# Altium integrated library Linear Technology Power Management Switching Regulator LTC1174-LTC3901.IntLib: 2647 symbols (part 224 of 364)
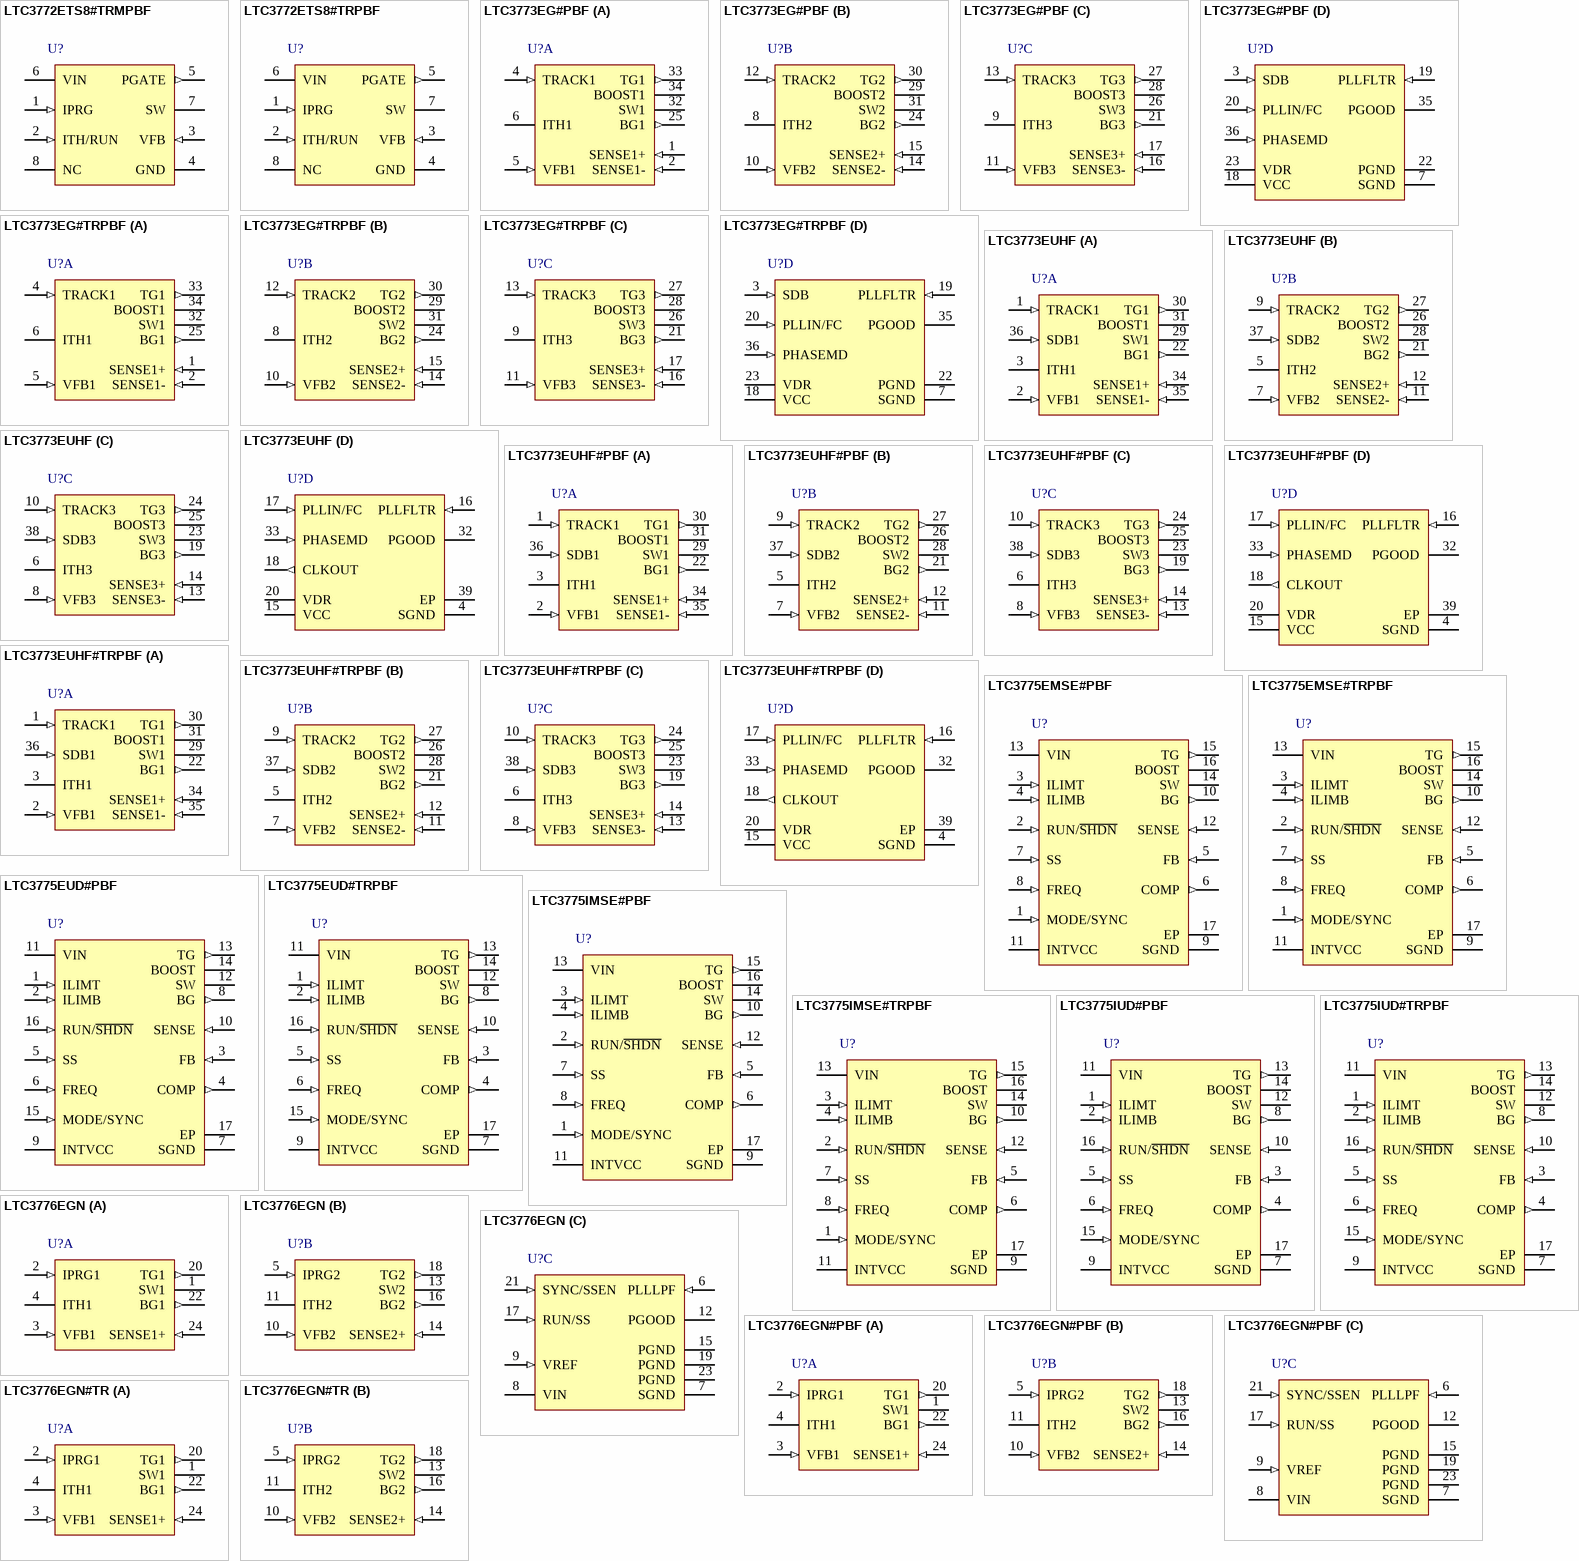
[diagram p231: symbols LTC3772ETS8#TRMPBF to LTC3776EGN#TR]

## LTC3775EMSE#TRPBF
designator U?
High Frequency Synchronous Step-Down Voltage Mode DC/DC Controller, 16-pin SOP (MSE-16-EDP), -40 to 85 degC, Pb-Free, Tape and Reel; Manufacturer: Linear Technology; PartNumber: LTC3775EMSE#TRPBF; Frequency Sync Range: 250kHz - 1MHz; Number of Outputs: 1; DatasheetVersion: Rev. A; PackageVersion: Rev. F, 05/2013; PackageReference: MSE-16; PackageDescription: 16-Pin Plastic MSOP, Exposed Die Pad, Body 4.039 x 3 mm, Pitch 0.5 mm; Supplier 1: Digi-Key; Supplier Part Number 1: LTC3775EMSE#TRPBF-ND; Packing: Tape and Reel; RoHS: TRUE; Mounting Technology: Surface Mount; ComponentLink1Description: Manufacturer URL; ComponentLink1URL: http://www.linear.com/; ComponentLink2Description: Datasheet; ComponentLink2URL: http://cds.linear.com/docs/en/datasheet/3775fa.pdf; ComponentLink3Description: Package Specification; ComponentLink3URL: http://cds.linear.com/docs/en/packaging/05081667_F_MSE16.pdf
footprint LT-MSE-16-EDP_N (SOP, 16-Leads, Body 4.1x3.1mm, Pitch 0.5mm, Thermal Pad 2.95x1.76mm, IPC Medium Density)
footprint LT-MSE-16-EDP_L (SOP, 16-Leads, Body 4.1x3.1mm, Pitch 0.5mm, Thermal Pad 2.95x1.76mm, IPC High Density)
footprint LT-MSE-16-EDP_M (SOP, 16-Leads, Body 4.1x3.1mm, Pitch 0.5mm, Thermal Pad 2.95x1.76mm, IPC Low Density)
pins: 1 MODE/SYNC (in) "Pulse-Skipping Mode Enable/ Sync Pin. This multifunction pin provides pulse-skipping mode enable/disable control and an external clock input for synchronization of the internal oscillator. Pulling this pin below 1.2V (DC) or (See Datasheet)", 2 RUN/~{SHDN} (in) "Enable/Shutdown Input. Pulling this pin above 1.22V enables the controller. Forcing this pin below 1.22V causes the driver outputs to pull low. Pulling this pin below 0.74V forces the LTC3775 into shutdown mode. While in (See Datasheet)", 3 ILIMT (in) "Topside Current Limit Set Point. This pin has an internal 100uA pull-down current, allowing the topside current limit threshold to be programmed by  an external resistor connected to VIN. See Current Limit Applications.", 4 ILIMB (in) "Bottom Side Current Limit Set Point. This pin has an internal 10uA pull-up current, allowing the bottom side current limit threshold to be programmed by an external resistor connected to SGND. See Current Limit Applications.", 5 FB (in) "Error Amplifier Input. The FB pin is connected to a resistive divider from VOUT to SGND. The feedback loop compensation network is also connected to this pin.", 6 COMP (out) "Error Amplifier Output. Use an RC network between the COMP pin and the FB pin to compensate the feedback loop for optimum transient response", 7 SS (in) "Soft-Start. Connect this pin to an external capacitor, CSS, to implement a soft-start function. When the voltage on the SS pin is less than the 0.6V internal reference, the LTC3775 regulates the VFB voltage to the SS pin (See Datasheet)", 8 FREQ (in) "Frequency Set. A resistor connected from this pin to SGND sets the free-running frequency of the internal oscillator. See Applications Information section for resistor value selection details", 9 SGND (power) "Signal Ground. All the internal low power circuitry returns to the SGND pin. All feedback and soft-start connections should return to SGND. SGND should be Kelvin connected to a single point near the negative terminal of the (See Datasheet)", 10 BG (out) "Bottom Gate Drive. This pin drives the gate of the bottom N-channel synchronous switch MOSFET. This pin swings from PGND to INTVCC.", 11 INTVCC (power) "Internal 5.2V Regulator Output. The gate driver and control circuits are powered from this voltage. Bypass this pin to power ground with a low ESR ceramic capacitor of value 4.7uF or greater (X5R or better).", 12 SENSE (in) "Topside Current Sensing Input. Connect this pin to the switch node of the converter for top MOSFET RDS(ON) current sensing. Alternatively, this pin can be connected to a sense resistor at the drain of the top MOSFET for more (See Datasheet)", 13 VIN (power) "Main Input Supply. Bypass this pin to PGND with a low ESR ceramic capacitor of value 1uF or greater (X5R or better).", 14 SW "Switch Node. Connect this pin to the source of the upper power MOSFET. This pin is also used as the input to the bottom side current limit comparator and the zero-crossing reverse current comparator", 15 TG (out) "Top Gate Drive. This pin drives the gate of the top N-channel MOSFET. The TG driver draws power from the BOOST pin and returns to the SW pin, providing true floating drive to the top MOSFET", 16 BOOST "Top Gate Driver Supply. This pin should be decoupled to SW with a 0.1uF low ESR ceramic capacitor. An external Schottky diode from INTVCC to BOOST creates a floating charge-pump supply at BOOST. No other external supplies (See Datasheet)", 17 EP (power) "The exposed pad of the QFN and MSOP packages is connected to PGND"

## LTC3775EUD#PBF
designator U?
High Frequency Synchronous Step-Down Voltage Mode DC/DC Controller, 16-pin QFN (UD-16), -40 to 85 degC, Pb-Free; Manufacturer: Linear Technology; PartNumber: LTC3775EUD#PBF; Frequency Sync Range: 250kHz - 1MHz; Number of Outputs: 1; DatasheetVersion: Rev. A; PackageVersion: Jun-10; PackageReference: UD-16; PackageDescription: 16-Pin Plastic QFN, Body 3 x 3 mm, Pitch 0.5 mm; Supplier 1: Digi-Key; Supplier Part Number 1: LTC3775EUD#PBF-ND; Supplier 2: Farnell; Supplier Part Number 2: 1839259; Supplier 3: Newark; Supplier Part Number 3: 51R1512; RoHS: TRUE; Mounting Technology: Surface Mount; Code_JEDEC: MO-220; ComponentLink1Description: Manufacturer URL; ComponentLink1URL: http://www.linear.com/; ComponentLink2Description: Datasheet; ComponentLink2URL: http://cds.linear.com/docs/en/datasheet/3775fa.pdf; ComponentLink3Description: Package Specification; ComponentLink3URL: http://cds.linear.com/docs/en/packaging/QFN_16_05-08-1691.pdf
footprint LT-UD-16_N (QFN, 16-Leads, Body 3x3mm, Pitch 0.5mm, Thermal Pad 1.45x1.45mm, IPC Medium Density)
footprint LT-UD-16_L (QFN, 16-Leads, Body 3x3mm, Pitch 0.5mm, Thermal Pad 1.45x1.45mm, IPC High Density)
footprint LT-UD-16_M (QFN, 16-Leads, Body 3x3mm, Pitch 0.5mm, Thermal Pad 1.45x1.45mm, IPC Low Density)
pins: 1 ILIMT (in) "Topside Current Limit Set Point. This pin has an internal 100uA pull-down current, allowing the topside current limit threshold to be programmed by  an external resistor connected to VIN. See Current Limit Applications.", 2 ILIMB (in) "Bottom Side Current Limit Set Point. This pin has an internal 10uA pull-up current, allowing the bottom side current limit threshold to be programmed by an external resistor connected to SGND. See Current Limit Applications.", 3 FB (in) "Error Amplifier Input. The FB pin is connected to a resistive divider from VOUT to SGND. The feedback loop compensation network is also connected to this pin.", 4 COMP (out) "Error Amplifier Output. Use an RC network between the COMP pin and the FB pin to compensate the feedback loop for optimum transient response", 5 SS (in) "Soft-Start. Connect this pin to an external capacitor, CSS, to implement a soft-start function. When the voltage on the SS pin is less than the 0.6V internal reference, the LTC3775 regulates the VFB voltage to the SS pin (See Datasheet)", 6 FREQ (in) "Frequency Set. A resistor connected from this pin to SGND sets the free-running frequency of the internal oscillator. See Applications Information section for resistor value selection details", 7 SGND (power) "Signal Ground. All the internal low power circuitry returns to the SGND pin. All feedback and soft-start connections should return to SGND. SGND should be Kelvin connected to a single point near the negative terminal of the (See Datasheet)", 8 BG (out) "Bottom Gate Drive. This pin drives the gate of the bottom N-channel synchronous switch MOSFET. This pin swings from PGND to INTVCC.", 9 INTVCC (power) "Internal 5.2V Regulator Output. The gate driver and control circuits are powered from this voltage. Bypass this pin to power ground with a low ESR ceramic capacitor of value 4.7uF or greater (X5R or better).", 10 SENSE (in) "Topside Current Sensing Input. Connect this pin to the switch node of the converter for top MOSFET RDS(ON) current sensing. Alternatively, this pin can be connected to a sense resistor at the drain of the top MOSFET for more (See Datasheet)", 11 VIN (power) "Main Input Supply. Bypass this pin to PGND with a low ESR ceramic capacitor of value 1uF or greater (X5R or better).", 12 SW "Switch Node. Connect this pin to the source of the upper power MOSFET. This pin is also used as the input to the bottom side current limit comparator and the zero-crossing reverse current comparator", 13 TG (out) "Top Gate Drive. This pin drives the gate of the top N-channel MOSFET. The TG driver draws power from the BOOST pin and returns to the SW pin, providing true floating drive to the top MOSFET", 14 BOOST "Top Gate Driver Supply. This pin should be decoupled to SW with a 0.1uF low ESR ceramic capacitor. An external Schottky diode from INTVCC to BOOST creates a floating charge-pump supply at BOOST. No other external supplies (See Datasheet)", 15 MODE/SYNC (in) "Pulse-Skipping Mode Enable/ Sync Pin. This multifunction pin provides pulse-skipping mode enable/disable control and an external clock input for synchronization of the internal oscillator. Pulling this pin below 1.2V (DC) or (See Datasheet)", 16 RUN/~{SHDN} (in) "Enable/Shutdown Input. Pulling this pin above 1.22V enables the controller. Forcing this pin below 1.22V causes the driver outputs to pull low. Pulling this pin below 0.74V forces the LTC3775 into shutdown mode. While in (See Datasheet)", 17 EP (power) "The exposed pad of the QFN and MSOP packages is connected to PGND"

## LTC3775EUD#TRPBF
designator U?
High Frequency Synchronous Step-Down Voltage Mode DC/DC Controller, 16-pin QFN (UD-16), -40 to 85 degC, Pb-Free, Tape and Reel; Manufacturer: Linear Technology; PartNumber: LTC3775EUD#TRPBF; Frequency Sync Range: 250kHz - 1MHz; Number of Outputs: 1; DatasheetVersion: Rev. A; PackageVersion: Jun-10; PackageReference: UD-16; PackageDescription: 16-Pin Plastic QFN, Body 3 x 3 mm, Pitch 0.5 mm; Supplier 1: Digi-Key; Supplier Part Number 1: LTC3775EUD#TRPBF-ND; Supplier 2: Newark; Supplier Part Number 2: 72R5685; Packing: Tape and Reel; RoHS: TRUE; Mounting Technology: Surface Mount; Code_JEDEC: MO-220; ComponentLink1Description: Manufacturer URL; ComponentLink1URL: http://www.linear.com/; ComponentLink2Description: Datasheet; ComponentLink2URL: http://cds.linear.com/docs/en/datasheet/3775fa.pdf; ComponentLink3Description: Package Specification; ComponentLink3URL: http://cds.linear.com/docs/en/packaging/QFN_16_05-08-1691.pdf
footprint LT-UD-16_N (QFN, 16-Leads, Body 3x3mm, Pitch 0.5mm, Thermal Pad 1.45x1.45mm, IPC Medium Density)
footprint LT-UD-16_L (QFN, 16-Leads, Body 3x3mm, Pitch 0.5mm, Thermal Pad 1.45x1.45mm, IPC High Density)
footprint LT-UD-16_M (QFN, 16-Leads, Body 3x3mm, Pitch 0.5mm, Thermal Pad 1.45x1.45mm, IPC Low Density)
pins: 1 ILIMT (in) "Topside Current Limit Set Point. This pin has an internal 100uA pull-down current, allowing the topside current limit threshold to be programmed by  an external resistor connected to VIN. See Current Limit Applications.", 2 ILIMB (in) "Bottom Side Current Limit Set Point. This pin has an internal 10uA pull-up current, allowing the bottom side current limit threshold to be programmed by an external resistor connected to SGND. See Current Limit Applications.", 3 FB (in) "Error Amplifier Input. The FB pin is connected to a resistive divider from VOUT to SGND. The feedback loop compensation network is also connected to this pin.", 4 COMP (out) "Error Amplifier Output. Use an RC network between the COMP pin and the FB pin to compensate the feedback loop for optimum transient response", 5 SS (in) "Soft-Start. Connect this pin to an external capacitor, CSS, to implement a soft-start function. When the voltage on the SS pin is less than the 0.6V internal reference, the LTC3775 regulates the VFB voltage to the SS pin (See Datasheet)", 6 FREQ (in) "Frequency Set. A resistor connected from this pin to SGND sets the free-running frequency of the internal oscillator. See Applications Information section for resistor value selection details", 7 SGND (power) "Signal Ground. All the internal low power circuitry returns to the SGND pin. All feedback and soft-start connections should return to SGND. SGND should be Kelvin connected to a single point near the negative terminal of the (See Datasheet)", 8 BG (out) "Bottom Gate Drive. This pin drives the gate of the bottom N-channel synchronous switch MOSFET. This pin swings from PGND to INTVCC.", 9 INTVCC (power) "Internal 5.2V Regulator Output. The gate driver and control circuits are powered from this voltage. Bypass this pin to power ground with a low ESR ceramic capacitor of value 4.7uF or greater (X5R or better).", 10 SENSE (in) "Topside Current Sensing Input. Connect this pin to the switch node of the converter for top MOSFET RDS(ON) current sensing. Alternatively, this pin can be connected to a sense resistor at the drain of the top MOSFET for more (See Datasheet)", 11 VIN (power) "Main Input Supply. Bypass this pin to PGND with a low ESR ceramic capacitor of value 1uF or greater (X5R or better).", 12 SW "Switch Node. Connect this pin to the source of the upper power MOSFET. This pin is also used as the input to the bottom side current limit comparator and the zero-crossing reverse current comparator", 13 TG (out) "Top Gate Drive. This pin drives the gate of the top N-channel MOSFET. The TG driver draws power from the BOOST pin and returns to the SW pin, providing true floating drive to the top MOSFET", 14 BOOST "Top Gate Driver Supply. This pin should be decoupled to SW with a 0.1uF low ESR ceramic capacitor. An external Schottky diode from INTVCC to BOOST creates a floating charge-pump supply at BOOST. No other external supplies (See Datasheet)", 15 MODE/SYNC (in) "Pulse-Skipping Mode Enable/ Sync Pin. This multifunction pin provides pulse-skipping mode enable/disable control and an external clock input for synchronization of the internal oscillator. Pulling this pin below 1.2V (DC) or (See Datasheet)", 16 RUN/~{SHDN} (in) "Enable/Shutdown Input. Pulling this pin above 1.22V enables the controller. Forcing this pin below 1.22V causes the driver outputs to pull low. Pulling this pin below 0.74V forces the LTC3775 into shutdown mode. While in (See Datasheet)", 17 EP (power) "The exposed pad of the QFN and MSOP packages is connected to PGND"

## LTC3775IMSE#PBF
designator U?
High Frequency Synchronous Step-Down Voltage Mode DC/DC Controller, 16-pin SOP (MSE-16-EDP), -40 to 125 degC, Pb-Free; Manufacturer: Linear Technology; PartNumber: LTC3775IMSE#PBF; Frequency Sync Range: 250kHz - 1MHz; Number of Outputs: 1; DatasheetVersion: Rev. A; PackageVersion: Rev. F, 05/2013; PackageReference: MSE-16; PackageDescription: 16-Pin Plastic MSOP, Exposed Die Pad, Body 4.039 x 3 mm, Pitch 0.5 mm; Supplier 1: Digi-Key; Supplier Part Number 1: LTC3775IMSE#PBF-ND; RoHS: TRUE; Mounting Technology: Surface Mount; ComponentLink1Description: Manufacturer URL; ComponentLink1URL: http://www.linear.com/; ComponentLink2Description: Datasheet; ComponentLink2URL: http://cds.linear.com/docs/en/datasheet/3775fa.pdf; ComponentLink3Description: Package Specification; ComponentLink3URL: http://cds.linear.com/docs/en/packaging/05081667_F_MSE16.pdf
footprint LT-MSE-16-EDP_N (SOP, 16-Leads, Body 4.1x3.1mm, Pitch 0.5mm, Thermal Pad 2.95x1.76mm, IPC Medium Density)
footprint LT-MSE-16-EDP_L (SOP, 16-Leads, Body 4.1x3.1mm, Pitch 0.5mm, Thermal Pad 2.95x1.76mm, IPC High Density)
footprint LT-MSE-16-EDP_M (SOP, 16-Leads, Body 4.1x3.1mm, Pitch 0.5mm, Thermal Pad 2.95x1.76mm, IPC Low Density)
pins: 1 MODE/SYNC (in) "Pulse-Skipping Mode Enable/ Sync Pin. This multifunction pin provides pulse-skipping mode enable/disable control and an external clock input for synchronization of the internal oscillator. Pulling this pin below 1.2V (DC) or (See Datasheet)", 2 RUN/~{SHDN} (in) "Enable/Shutdown Input. Pulling this pin above 1.22V enables the controller. Forcing this pin below 1.22V causes the driver outputs to pull low. Pulling this pin below 0.74V forces the LTC3775 into shutdown mode. While in (See Datasheet)", 3 ILIMT (in) "Topside Current Limit Set Point. This pin has an internal 100uA pull-down current, allowing the topside current limit threshold to be programmed by  an external resistor connected to VIN. See Current Limit Applications.", 4 ILIMB (in) "Bottom Side Current Limit Set Point. This pin has an internal 10uA pull-up current, allowing the bottom side current limit threshold to be programmed by an external resistor connected to SGND. See Current Limit Applications.", 5 FB (in) "Error Amplifier Input. The FB pin is connected to a resistive divider from VOUT to SGND. The feedback loop compensation network is also connected to this pin.", 6 COMP (out) "Error Amplifier Output. Use an RC network between the COMP pin and the FB pin to compensate the feedback loop for optimum transient response", 7 SS (in) "Soft-Start. Connect this pin to an external capacitor, CSS, to implement a soft-start function. When the voltage on the SS pin is less than the 0.6V internal reference, the LTC3775 regulates the VFB voltage to the SS pin (See Datasheet)", 8 FREQ (in) "Frequency Set. A resistor connected from this pin to SGND sets the free-running frequency of the internal oscillator. See Applications Information section for resistor value selection details", 9 SGND (power) "Signal Ground. All the internal low power circuitry returns to the SGND pin. All feedback and soft-start connections should return to SGND. SGND should be Kelvin connected to a single point near the negative terminal of the (See Datasheet)", 10 BG (out) "Bottom Gate Drive. This pin drives the gate of the bottom N-channel synchronous switch MOSFET. This pin swings from PGND to INTVCC.", 11 INTVCC (power) "Internal 5.2V Regulator Output. The gate driver and control circuits are powered from this voltage. Bypass this pin to power ground with a low ESR ceramic capacitor of value 4.7uF or greater (X5R or better).", 12 SENSE (in) "Topside Current Sensing Input. Connect this pin to the switch node of the converter for top MOSFET RDS(ON) current sensing. Alternatively, this pin can be connected to a sense resistor at the drain of the top MOSFET for more (See Datasheet)", 13 VIN (power) "Main Input Supply. Bypass this pin to PGND with a low ESR ceramic capacitor of value 1uF or greater (X5R or better).", 14 SW "Switch Node. Connect this pin to the source of the upper power MOSFET. This pin is also used as the input to the bottom side current limit comparator and the zero-crossing reverse current comparator", 15 TG (out) "Top Gate Drive. This pin drives the gate of the top N-channel MOSFET. The TG driver draws power from the BOOST pin and returns to the SW pin, providing true floating drive to the top MOSFET", 16 BOOST "Top Gate Driver Supply. This pin should be decoupled to SW with a 0.1uF low ESR ceramic capacitor. An external Schottky diode from INTVCC to BOOST creates a floating charge-pump supply at BOOST. No other external supplies (See Datasheet)", 17 EP (power) "The exposed pad of the QFN and MSOP packages is connected to PGND"

## LTC3775IMSE#TRPBF
designator U?
High Frequency Synchronous Step-Down Voltage Mode DC/DC Controller, 16-pin SOP (MSE-16-EDP), -40 to 125 degC, Pb-Free, Tape and Reel; Manufacturer: Linear Technology; PartNumber: LTC3775IMSE#TRPBF; Frequency Sync Range: 250kHz - 1MHz; Number of Outputs: 1; DatasheetVersion: Rev. A; PackageVersion: Rev. F, 05/2013; PackageReference: MSE-16; PackageDescription: 16-Pin Plastic MSOP, Exposed Die Pad, Body 4.039 x 3 mm, Pitch 0.5 mm; Supplier 1: Digi-Key; Supplier Part Number 1: LTC3775IMSE#TRPBF-ND; Packing: Tape and Reel; RoHS: TRUE; Mounting Technology: Surface Mount; ComponentLink1Description: Manufacturer URL; ComponentLink1URL: http://www.linear.com/; ComponentLink2Description: Datasheet; ComponentLink2URL: http://cds.linear.com/docs/en/datasheet/3775fa.pdf; ComponentLink3Description: Package Specification; ComponentLink3URL: http://cds.linear.com/docs/en/packaging/05081667_F_MSE16.pdf
footprint LT-MSE-16-EDP_N (SOP, 16-Leads, Body 4.1x3.1mm, Pitch 0.5mm, Thermal Pad 2.95x1.76mm, IPC Medium Density)
footprint LT-MSE-16-EDP_L (SOP, 16-Leads, Body 4.1x3.1mm, Pitch 0.5mm, Thermal Pad 2.95x1.76mm, IPC High Density)
footprint LT-MSE-16-EDP_M (SOP, 16-Leads, Body 4.1x3.1mm, Pitch 0.5mm, Thermal Pad 2.95x1.76mm, IPC Low Density)
pins: 1 MODE/SYNC (in) "Pulse-Skipping Mode Enable/ Sync Pin. This multifunction pin provides pulse-skipping mode enable/disable control and an external clock input for synchronization of the internal oscillator. Pulling this pin below 1.2V (DC) or (See Datasheet)", 2 RUN/~{SHDN} (in) "Enable/Shutdown Input. Pulling this pin above 1.22V enables the controller. Forcing this pin below 1.22V causes the driver outputs to pull low. Pulling this pin below 0.74V forces the LTC3775 into shutdown mode. While in (See Datasheet)", 3 ILIMT (in) "Topside Current Limit Set Point. This pin has an internal 100uA pull-down current, allowing the topside current limit threshold to be programmed by  an external resistor connected to VIN. See Current Limit Applications.", 4 ILIMB (in) "Bottom Side Current Limit Set Point. This pin has an internal 10uA pull-up current, allowing the bottom side current limit threshold to be programmed by an external resistor connected to SGND. See Current Limit Applications.", 5 FB (in) "Error Amplifier Input. The FB pin is connected to a resistive divider from VOUT to SGND. The feedback loop compensation network is also connected to this pin.", 6 COMP (out) "Error Amplifier Output. Use an RC network between the COMP pin and the FB pin to compensate the feedback loop for optimum transient response", 7 SS (in) "Soft-Start. Connect this pin to an external capacitor, CSS, to implement a soft-start function. When the voltage on the SS pin is less than the 0.6V internal reference, the LTC3775 regulates the VFB voltage to the SS pin (See Datasheet)", 8 FREQ (in) "Frequency Set. A resistor connected from this pin to SGND sets the free-running frequency of the internal oscillator. See Applications Information section for resistor value selection details", 9 SGND (power) "Signal Ground. All the internal low power circuitry returns to the SGND pin. All feedback and soft-start connections should return to SGND. SGND should be Kelvin connected to a single point near the negative terminal of the (See Datasheet)", 10 BG (out) "Bottom Gate Drive. This pin drives the gate of the bottom N-channel synchronous switch MOSFET. This pin swings from PGND to INTVCC.", 11 INTVCC (power) "Internal 5.2V Regulator Output. The gate driver and control circuits are powered from this voltage. Bypass this pin to power ground with a low ESR ceramic capacitor of value 4.7uF or greater (X5R or better).", 12 SENSE (in) "Topside Current Sensing Input. Connect this pin to the switch node of the converter for top MOSFET RDS(ON) current sensing. Alternatively, this pin can be connected to a sense resistor at the drain of the top MOSFET for more (See Datasheet)", 13 VIN (power) "Main Input Supply. Bypass this pin to PGND with a low ESR ceramic capacitor of value 1uF or greater (X5R or better).", 14 SW "Switch Node. Connect this pin to the source of the upper power MOSFET. This pin is also used as the input to the bottom side current limit comparator and the zero-crossing reverse current comparator", 15 TG (out) "Top Gate Drive. This pin drives the gate of the top N-channel MOSFET. The TG driver draws power from the BOOST pin and returns to the SW pin, providing true floating drive to the top MOSFET", 16 BOOST "Top Gate Driver Supply. This pin should be decoupled to SW with a 0.1uF low ESR ceramic capacitor. An external Schottky diode from INTVCC to BOOST creates a floating charge-pump supply at BOOST. No other external supplies (See Datasheet)", 17 EP (power) "The exposed pad of the QFN and MSOP packages is connected to PGND"

## LTC3775IUD#PBF
designator U?
High Frequency Synchronous Step-Down Voltage Mode DC/DC Controller, 16-pin QFN (UD-16), -40 to 125 degC, Pb-Free; Manufacturer: Linear Technology; PartNumber: LTC3775IUD#PBF; Frequency Sync Range: 250kHz - 1MHz; Number of Outputs: 1; DatasheetVersion: Rev. A; PackageVersion: Jun-10; PackageReference: UD-16; PackageDescription: 16-Pin Plastic QFN, Body 3 x 3 mm, Pitch 0.5 mm; Supplier 1: Digi-Key; Supplier Part Number 1: LTC3775IUD#PBF-ND; Supplier 2: Newark; Supplier Part Number 2: 72R5686; RoHS: TRUE; Mounting Technology: Surface Mount; Code_JEDEC: MO-220; ComponentLink1Description: Manufacturer URL; ComponentLink1URL: http://www.linear.com/; ComponentLink2Description: Datasheet; ComponentLink2URL: http://cds.linear.com/docs/en/datasheet/3775fa.pdf; ComponentLink3Description: Package Specification; ComponentLink3URL: http://cds.linear.com/docs/en/packaging/QFN_16_05-08-1691.pdf
footprint LT-UD-16_N (QFN, 16-Leads, Body 3x3mm, Pitch 0.5mm, Thermal Pad 1.45x1.45mm, IPC Medium Density)
footprint LT-UD-16_L (QFN, 16-Leads, Body 3x3mm, Pitch 0.5mm, Thermal Pad 1.45x1.45mm, IPC High Density)
footprint LT-UD-16_M (QFN, 16-Leads, Body 3x3mm, Pitch 0.5mm, Thermal Pad 1.45x1.45mm, IPC Low Density)
pins: 1 ILIMT (in) "Topside Current Limit Set Point. This pin has an internal 100uA pull-down current, allowing the topside current limit threshold to be programmed by  an external resistor connected to VIN. See Current Limit Applications.", 2 ILIMB (in) "Bottom Side Current Limit Set Point. This pin has an internal 10uA pull-up current, allowing the bottom side current limit threshold to be programmed by an external resistor connected to SGND. See Current Limit Applications.", 3 FB (in) "Error Amplifier Input. The FB pin is connected to a resistive divider from VOUT to SGND. The feedback loop compensation network is also connected to this pin.", 4 COMP (out) "Error Amplifier Output. Use an RC network between the COMP pin and the FB pin to compensate the feedback loop for optimum transient response", 5 SS (in) "Soft-Start. Connect this pin to an external capacitor, CSS, to implement a soft-start function. When the voltage on the SS pin is less than the 0.6V internal reference, the LTC3775 regulates the VFB voltage to the SS pin (See Datasheet)", 6 FREQ (in) "Frequency Set. A resistor connected from this pin to SGND sets the free-running frequency of the internal oscillator. See Applications Information section for resistor value selection details", 7 SGND (power) "Signal Ground. All the internal low power circuitry returns to the SGND pin. All feedback and soft-start connections should return to SGND. SGND should be Kelvin connected to a single point near the negative terminal of the (See Datasheet)", 8 BG (out) "Bottom Gate Drive. This pin drives the gate of the bottom N-channel synchronous switch MOSFET. This pin swings from PGND to INTVCC.", 9 INTVCC (power) "Internal 5.2V Regulator Output. The gate driver and control circuits are powered from this voltage. Bypass this pin to power ground with a low ESR ceramic capacitor of value 4.7uF or greater (X5R or better).", 10 SENSE (in) "Topside Current Sensing Input. Connect this pin to the switch node of the converter for top MOSFET RDS(ON) current sensing. Alternatively, this pin can be connected to a sense resistor at the drain of the top MOSFET for more (See Datasheet)", 11 VIN (power) "Main Input Supply. Bypass this pin to PGND with a low ESR ceramic capacitor of value 1uF or greater (X5R or better).", 12 SW "Switch Node. Connect this pin to the source of the upper power MOSFET. This pin is also used as the input to the bottom side current limit comparator and the zero-crossing reverse current comparator", 13 TG (out) "Top Gate Drive. This pin drives the gate of the top N-channel MOSFET. The TG driver draws power from the BOOST pin and returns to the SW pin, providing true floating drive to the top MOSFET", 14 BOOST "Top Gate Driver Supply. This pin should be decoupled to SW with a 0.1uF low ESR ceramic capacitor. An external Schottky diode from INTVCC to BOOST creates a floating charge-pump supply at BOOST. No other external supplies (See Datasheet)", 15 MODE/SYNC (in) "Pulse-Skipping Mode Enable/ Sync Pin. This multifunction pin provides pulse-skipping mode enable/disable control and an external clock input for synchronization of the internal oscillator. Pulling this pin below 1.2V (DC) or (See Datasheet)", 16 RUN/~{SHDN} (in) "Enable/Shutdown Input. Pulling this pin above 1.22V enables the controller. Forcing this pin below 1.22V causes the driver outputs to pull low. Pulling this pin below 0.74V forces the LTC3775 into shutdown mode. While in (See Datasheet)", 17 EP (power) "The exposed pad of the QFN and MSOP packages is connected to PGND"

## LTC3775IUD#TRPBF
designator U?
High Frequency Synchronous Step-Down Voltage Mode DC/DC Controller, 16-pin QFN (UD-16), -40 to 125 degC, Pb-Free, Tape and Reel; Manufacturer: Linear Technology; PartNumber: LTC3775IUD#TRPBF; Frequency Sync Range: 250kHz - 1MHz; Number of Outputs: 1; DatasheetVersion: Rev. A; PackageVersion: Jun-10; PackageReference: UD-16; PackageDescription: 16-Pin Plastic QFN, Body 3 x 3 mm, Pitch 0.5 mm; Supplier 1: Digi-Key; Supplier Part Number 1: LTC3775IUD#TRPBF-ND; Packing: Tape and Reel; RoHS: TRUE; Mounting Technology: Surface Mount; Code_JEDEC: MO-220; ComponentLink1Description: Manufacturer URL; ComponentLink1URL: http://www.linear.com/; ComponentLink2Description: Datasheet; ComponentLink2URL: http://cds.linear.com/docs/en/datasheet/3775fa.pdf; ComponentLink3Description: Package Specification; ComponentLink3URL: http://cds.linear.com/docs/en/packaging/QFN_16_05-08-1691.pdf
footprint LT-UD-16_N (QFN, 16-Leads, Body 3x3mm, Pitch 0.5mm, Thermal Pad 1.45x1.45mm, IPC Medium Density)
footprint LT-UD-16_L (QFN, 16-Leads, Body 3x3mm, Pitch 0.5mm, Thermal Pad 1.45x1.45mm, IPC High Density)
footprint LT-UD-16_M (QFN, 16-Leads, Body 3x3mm, Pitch 0.5mm, Thermal Pad 1.45x1.45mm, IPC Low Density)
pins: 1 ILIMT (in) "Topside Current Limit Set Point. This pin has an internal 100uA pull-down current, allowing the topside current limit threshold to be programmed by  an external resistor connected to VIN. See Current Limit Applications.", 2 ILIMB (in) "Bottom Side Current Limit Set Point. This pin has an internal 10uA pull-up current, allowing the bottom side current limit threshold to be programmed by an external resistor connected to SGND. See Current Limit Applications.", 3 FB (in) "Error Amplifier Input. The FB pin is connected to a resistive divider from VOUT to SGND. The feedback loop compensation network is also connected to this pin.", 4 COMP (out) "Error Amplifier Output. Use an RC network between the COMP pin and the FB pin to compensate the feedback loop for optimum transient response", 5 SS (in) "Soft-Start. Connect this pin to an external capacitor, CSS, to implement a soft-start function. When the voltage on the SS pin is less than the 0.6V internal reference, the LTC3775 regulates the VFB voltage to the SS pin (See Datasheet)", 6 FREQ (in) "Frequency Set. A resistor connected from this pin to SGND sets the free-running frequency of the internal oscillator. See Applications Information section for resistor value selection details", 7 SGND (power) "Signal Ground. All the internal low power circuitry returns to the SGND pin. All feedback and soft-start connections should return to SGND. SGND should be Kelvin connected to a single point near the negative terminal of the (See Datasheet)", 8 BG (out) "Bottom Gate Drive. This pin drives the gate of the bottom N-channel synchronous switch MOSFET. This pin swings from PGND to INTVCC.", 9 INTVCC (power) "Internal 5.2V Regulator Output. The gate driver and control circuits are powered from this voltage. Bypass this pin to power ground with a low ESR ceramic capacitor of value 4.7uF or greater (X5R or better).", 10 SENSE (in) "Topside Current Sensing Input. Connect this pin to the switch node of the converter for top MOSFET RDS(ON) current sensing. Alternatively, this pin can be connected to a sense resistor at the drain of the top MOSFET for more (See Datasheet)", 11 VIN (power) "Main Input Supply. Bypass this pin to PGND with a low ESR ceramic capacitor of value 1uF or greater (X5R or better).", 12 SW "Switch Node. Connect this pin to the source of the upper power MOSFET. This pin is also used as the input to the bottom side current limit comparator and the zero-crossing reverse current comparator", 13 TG (out) "Top Gate Drive. This pin drives the gate of the top N-channel MOSFET. The TG driver draws power from the BOOST pin and returns to the SW pin, providing true floating drive to the top MOSFET", 14 BOOST "Top Gate Driver Supply. This pin should be decoupled to SW with a 0.1uF low ESR ceramic capacitor. An external Schottky diode from INTVCC to BOOST creates a floating charge-pump supply at BOOST. No other external supplies (See Datasheet)", 15 MODE/SYNC (in) "Pulse-Skipping Mode Enable/ Sync Pin. This multifunction pin provides pulse-skipping mode enable/disable control and an external clock input for synchronization of the internal oscillator. Pulling this pin below 1.2V (DC) or (See Datasheet)", 16 RUN/~{SHDN} (in) "Enable/Shutdown Input. Pulling this pin above 1.22V enables the controller. Forcing this pin below 1.22V causes the driver outputs to pull low. Pulling this pin below 0.74V forces the LTC3775 into shutdown mode. While in (See Datasheet)", 17 EP (power) "The exposed pad of the QFN and MSOP packages is connected to PGND"

## LTC3776EGN
designator U?
Dual 2-Phase, No Rsense Synchronous Controller for DDR/QDR Memory Termination, 24-pin SOP (GN-24), -40 to 85 degC; Manufacturer: Linear Technology; PartNumber: LTC3776EGN; Frequency Sync Range: 250kHz - 850kHz; Number of Outputs: 2; DatasheetVersion: Rev. A; PackageVersion: Rev. B, 03/2012; PackageReference: GN24; PackageDescription: 24-Pin Plastic SSOP , Body 8.5 x 3.9 mm, Pitch 0.635 mm; Supplier 1: Newark; Supplier Part Number 1: 56M8382; RoHS: FALSE; Mounting Technology: Surface Mount; ComponentLink1Description: Manufacturer URL; ComponentLink1URL: http://www.linear.com/; ComponentLink2Description: Datasheet; ComponentLink2URL: http://cds.linear.com/docs/en/datasheet/3776fa.pdf; ComponentLink3Description: Package Specification; ComponentLink3URL: http://cds.linear.com/docs/en/packaging/05081641_B_GN24.pdf
footprint LT-GN-24_N (SOP, 24-Leads, Body 8.7x4mm, Pitch 0.635mm, IPC Medium Density)
footprint LT-GN-24_L (SOP, 24-Leads, Body 8.7x4mm, Pitch 0.635mm, IPC High Density)
footprint LT-GN-24_M (SOP, 24-Leads, Body 8.7x4mm, Pitch 0.635mm, IPC Low Density)
part A pins: 1 SW1 "Switch Node Connection to Inductor. Also the negative input to differential peak current comparator and an input to the reverse current comparator. Normally connected to the drain of the external P-channel MOSFETs, the drain (See Datasheet)", 2 IPRG1 (in) "Three-State Pins to Select Maximum Peak Sense Voltage Threshold. These pins select the maximum allowed voltage drop between the SENSE+ and SW pins (i.e., the maximum allowed drop across the external P-channel MOSFET) for (See Datasheet)", 3 VFB1 (in) "Feedback Pins. Receives the remotely sensed feedback voltage for its controller.", 4 ITH1 "Current Threshold and Error Amplifier Compensation Point. Nominal operating range on these pins is from 0.7V to 2V. The voltage on these pins determines the threshold of the main current comparator.", 20 TG1 (out) "Top (PMOS) Gate Drive Output. These pins drive the gates of the external P-channel MOSFETs. These pins have an output swing from PGND to SENSE+.", 22 BG1 (out) "Bottom (NMOS) Gate Drive Output. These pins drive the gates of the external Nchannel MOSFETs. These pins have an output swing from PGND to SENSE+.", 24 SENSE1+ (in) "Positive Input to Differential Current Comparator. Also powers the gate drivers. Normally connected to the source of the external P-channel MOSFET."
part B pins: 5 IPRG2 (in) "Three-State Pins to Select Maximum Peak Sense Voltage Threshold. These pins select the maximum allowed voltage drop between the SENSE+ and SW pins (i.e., the maximum allowed drop across the external P-channel MOSFET) for (See Datasheet)", 10 VFB2 (in) "Feedback Pins. Receives the remotely sensed feedback voltage for its controller.", 11 ITH2 "Current Threshold and Error Amplifier Compensation Point. Nominal operating range on these pins is from 0.7V to 2V. The voltage on these pins determines the threshold of the main current comparator.", 13 SW2 "Switch Node Connection to Inductor. Also the negative input to differential peak current comparator and an input to the reverse current comparator. Normally connected to the drain of the external P-channel MOSFETs, the drain (See Datasheet)", 14 SENSE2+ (in) "Positive Input to Differential Current Comparator. Also powers the gate drivers. Normally connected to the source of the external P-channel MOSFET.", 16 BG2 (out) "Bottom (NMOS) Gate Drive Output. These pins drive the gates of the external Nchannel MOSFETs. These pins have an output swing from PGND to SENSE+.", 18 TG2 (out) "Top (PMOS) Gate Drive Output. These pins drive the gates of the external P-channel MOSFETs. These pins have an output swing from PGND to SENSE+."
part C pins: 6 PLLLPF (in) "Frequency Set/PLL Lowpass Filter. When synchronizing to an external clock, this pin serves as the lowpass filter point for the phase-locked loop. Normally a series RC is connected between this pin and ground. When SYNC/SSEN (See Datasheet)", 7 SGND (power) "Small-Signal Ground. This pin serves as the ground connection for most internal circuits.", 8 VIN (power) "Chip Signal Power Supply. This pin powers the entire chip except for the gate drivers. Externally filtering this pin with a lowpass RC network (e.g., R = 10ohm, C = 1uF) is suggested to minimize noise pickup, especially in (See Datasheet)", 9 VREF (in) "Reference voltage input for channel 2. The positive input of the error amplifier for channel 2 senses one half of the voltage on this pin through an internal resistor divider.", 12 PGOOD (oc) "Power Good Output Voltage Monitor Open-Drain Logic Output. This pin is pulled to ground when the voltage on either feedback pin (VFB1, VFB2) is not within +/-13.3% of its nominal set point.", 15 PGND (power) "Power Ground. These pins serve as the ground connection for the gate drivers and the negative input to the reverse current comparators. The Exposed Pad (UF package) must be soldered to PCB ground.", 17 RUN/SS (in) "Run Control Input and Optional External Soft-Start Input. Forcing this pin below 0.65V shuts down the chip (both channels). Driving this pin to VIN or releasing this pin enables the chip, using the chip’s interna(See Datasheet)", 19 PGND (power) "Power Ground. These pins serve as the ground connection for the gate drivers and the negative input to the reverse current comparators. The Exposed Pad (UF package) must be soldered to PCB ground.", 21 SYNC/SSEN (in) "Synchronization Input and Spread Spectrum Modulation Enable Input. To synchronize the LTC3776’s switching frequency to an external clock using the phase-locked loop, apply a CMOS compatible clock with a frequency betwee(See Datasheet)", 23 PGND (power) "Power Ground. These pins serve as the ground connection for the gate drivers and the negative input to the reverse current comparators. The Exposed Pad (UF package) must be soldered to PCB ground."

## LTC3776EGN#PBF
designator U?
Dual 2-Phase, No Rsense Synchronous Controller for DDR/QDR Memory Termination, 24-pin SOP (GN-24), -40 to 85 degC, Pb-Free; Manufacturer: Linear Technology; PartNumber: LTC3776EGN#PBF; Frequency Sync Range: 250kHz - 850kHz; Number of Outputs: 2; DatasheetVersion: Rev. A; PackageVersion: Rev. B, 03/2012; PackageReference: GN24; PackageDescription: 24-Pin Plastic SSOP , Body 8.5 x 3.9 mm, Pitch 0.635 mm; Supplier 1: Digi-Key; Supplier Part Number 1: LTC3776EGN#PBF-ND; Supplier 2: Farnell; Supplier Part Number 2: 2295139; RoHS: TRUE; Mounting Technology: Surface Mount; ComponentLink1Description: Manufacturer URL; ComponentLink1URL: http://www.linear.com/; ComponentLink2Description: Datasheet; ComponentLink2URL: http://cds.linear.com/docs/en/datasheet/3776fa.pdf; ComponentLink3Description: Package Specification; ComponentLink3URL: http://cds.linear.com/docs/en/packaging/05081641_B_GN24.pdf
footprint LT-GN-24_N (SOP, 24-Leads, Body 8.7x4mm, Pitch 0.635mm, IPC Medium Density)
footprint LT-GN-24_L (SOP, 24-Leads, Body 8.7x4mm, Pitch 0.635mm, IPC High Density)
footprint LT-GN-24_M (SOP, 24-Leads, Body 8.7x4mm, Pitch 0.635mm, IPC Low Density)
part A pins: 1 SW1 "Switch Node Connection to Inductor. Also the negative input to differential peak current comparator and an input to the reverse current comparator. Normally connected to the drain of the external P-channel MOSFETs, the drain (See Datasheet)", 2 IPRG1 (in) "Three-State Pins to Select Maximum Peak Sense Voltage Threshold. These pins select the maximum allowed voltage drop between the SENSE+ and SW pins (i.e., the maximum allowed drop across the external P-channel MOSFET) for (See Datasheet)", 3 VFB1 (in) "Feedback Pins. Receives the remotely sensed feedback voltage for its controller.", 4 ITH1 "Current Threshold and Error Amplifier Compensation Point. Nominal operating range on these pins is from 0.7V to 2V. The voltage on these pins determines the threshold of the main current comparator.", 20 TG1 (out) "Top (PMOS) Gate Drive Output. These pins drive the gates of the external P-channel MOSFETs. These pins have an output swing from PGND to SENSE+.", 22 BG1 (out) "Bottom (NMOS) Gate Drive Output. These pins drive the gates of the external Nchannel MOSFETs. These pins have an output swing from PGND to SENSE+.", 24 SENSE1+ (in) "Positive Input to Differential Current Comparator. Also powers the gate drivers. Normally connected to the source of the external P-channel MOSFET."
part B pins: 5 IPRG2 (in) "Three-State Pins to Select Maximum Peak Sense Voltage Threshold. These pins select the maximum allowed voltage drop between the SENSE+ and SW pins (i.e., the maximum allowed drop across the external P-channel MOSFET) for (See Datasheet)", 10 VFB2 (in) "Feedback Pins. Receives the remotely sensed feedback voltage for its controller.", 11 ITH2 "Current Threshold and Error Amplifier Compensation Point. Nominal operating range on these pins is from 0.7V to 2V. The voltage on these pins determines the threshold of the main current comparator.", 13 SW2 "Switch Node Connection to Inductor. Also the negative input to differential peak current comparator and an input to the reverse current comparator. Normally connected to the drain of the external P-channel MOSFETs, the drain (See Datasheet)", 14 SENSE2+ (in) "Positive Input to Differential Current Comparator. Also powers the gate drivers. Normally connected to the source of the external P-channel MOSFET.", 16 BG2 (out) "Bottom (NMOS) Gate Drive Output. These pins drive the gates of the external Nchannel MOSFETs. These pins have an output swing from PGND to SENSE+.", 18 TG2 (out) "Top (PMOS) Gate Drive Output. These pins drive the gates of the external P-channel MOSFETs. These pins have an output swing from PGND to SENSE+."
part C pins: 6 PLLLPF (in) "Frequency Set/PLL Lowpass Filter. When synchronizing to an external clock, this pin serves as the lowpass filter point for the phase-locked loop. Normally a series RC is connected between this pin and ground. When SYNC/SSEN (See Datasheet)", 7 SGND (power) "Small-Signal Ground. This pin serves as the ground connection for most internal circuits.", 8 VIN (power) "Chip Signal Power Supply. This pin powers the entire chip except for the gate drivers. Externally filtering this pin with a lowpass RC network (e.g., R = 10ohm, C = 1uF) is suggested to minimize noise pickup, especially in (See Datasheet)", 9 VREF (in) "Reference voltage input for channel 2. The positive input of the error amplifier for channel 2 senses one half of the voltage on this pin through an internal resistor divider.", 12 PGOOD (oc) "Power Good Output Voltage Monitor Open-Drain Logic Output. This pin is pulled to ground when the voltage on either feedback pin (VFB1, VFB2) is not within +/-13.3% of its nominal set point.", 15 PGND (power) "Power Ground. These pins serve as the ground connection for the gate drivers and the negative input to the reverse current comparators. The Exposed Pad (UF package) must be soldered to PCB ground.", 17 RUN/SS (in) "Run Control Input and Optional External Soft-Start Input. Forcing this pin below 0.65V shuts down the chip (both channels). Driving this pin to VIN or releasing this pin enables the chip, using the chip’s interna(See Datasheet)", 19 PGND (power) "Power Ground. These pins serve as the ground connection for the gate drivers and the negative input to the reverse current comparators. The Exposed Pad (UF package) must be soldered to PCB ground.", 21 SYNC/SSEN (in) "Synchronization Input and Spread Spectrum Modulation Enable Input. To synchronize the LTC3776’s switching frequency to an external clock using the phase-locked loop, apply a CMOS compatible clock with a frequency betwee(See Datasheet)", 23 PGND (power) "Power Ground. These pins serve as the ground connection for the gate drivers and the negative input to the reverse current comparators. The Exposed Pad (UF package) must be soldered to PCB ground."

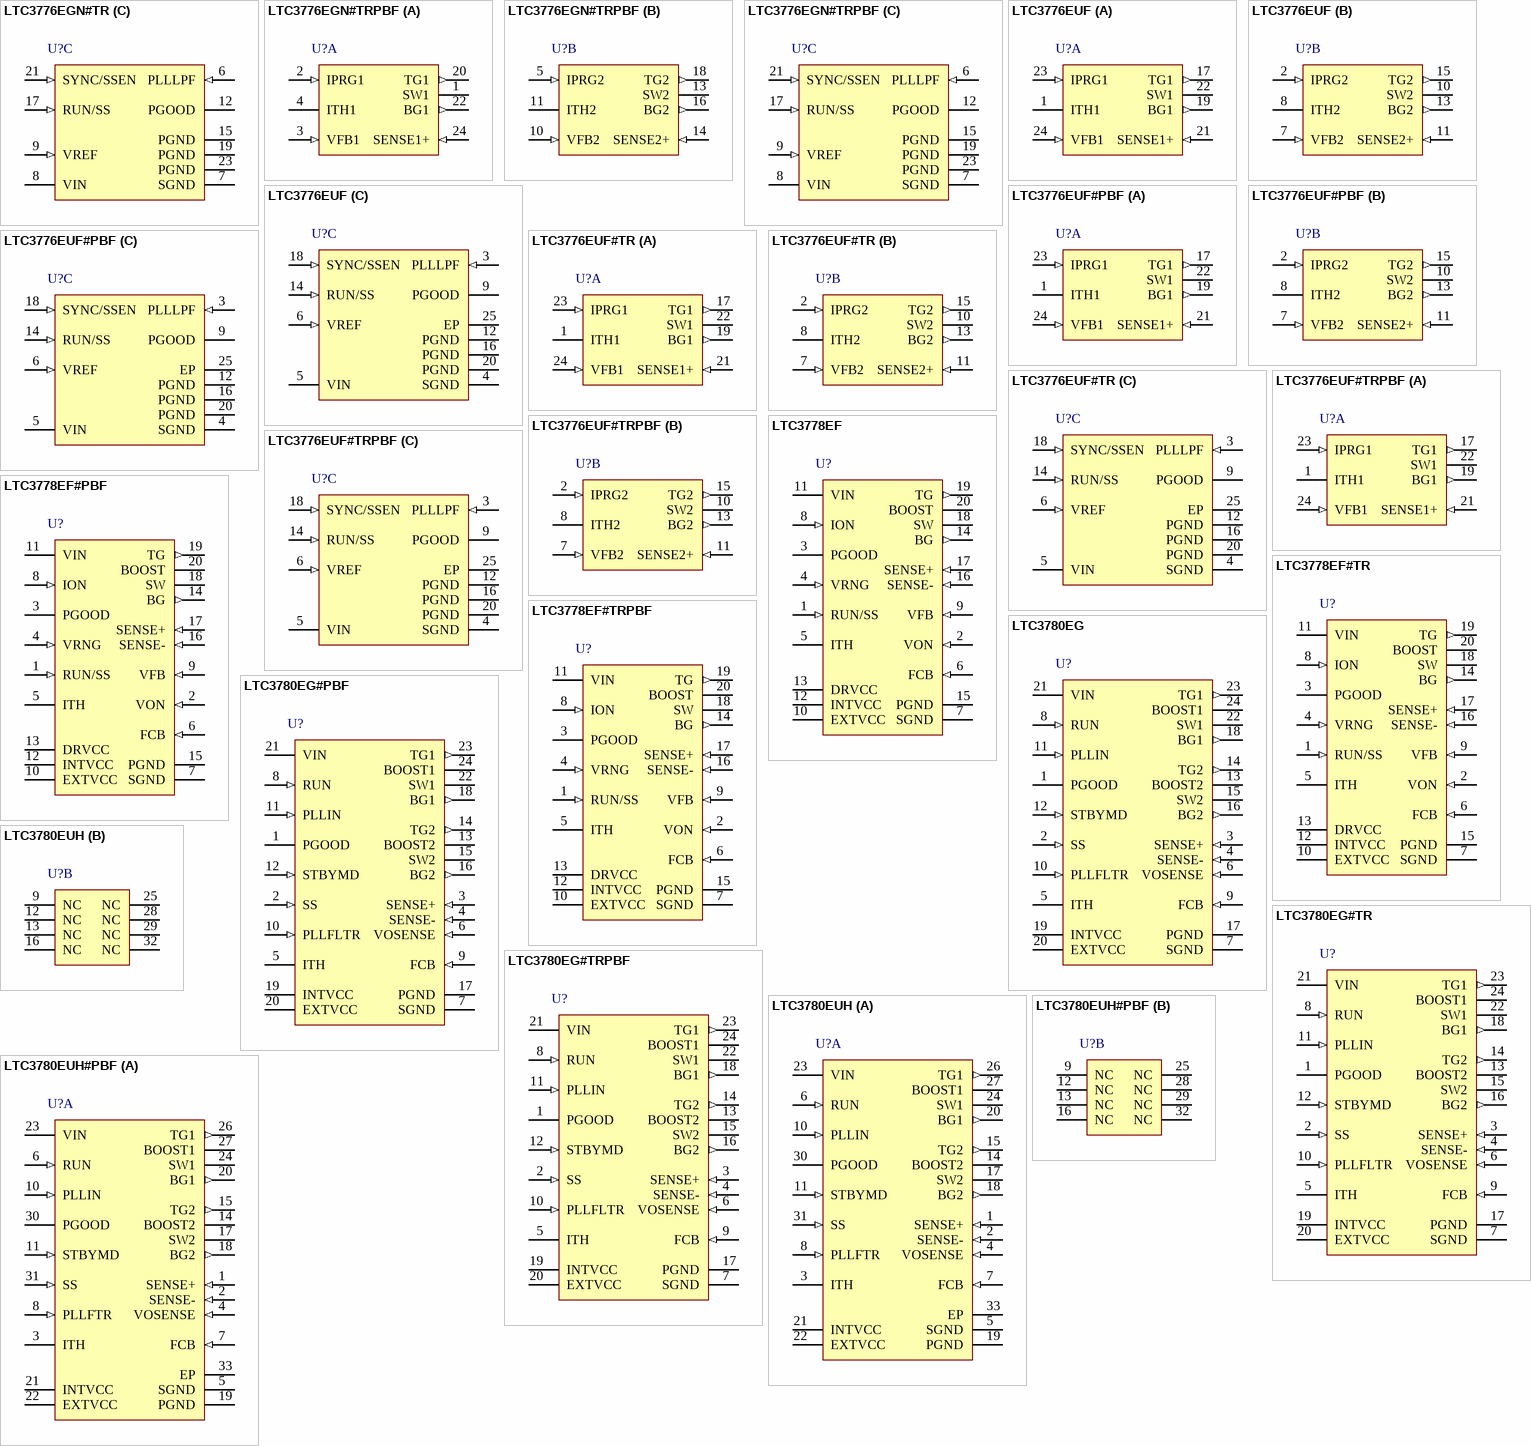
[diagram p70: symbols LTC3776EGN#TR to LTC3780EUH#PBF]